# EAGLE library part MALE_HEADER_5X2 (library connectors)
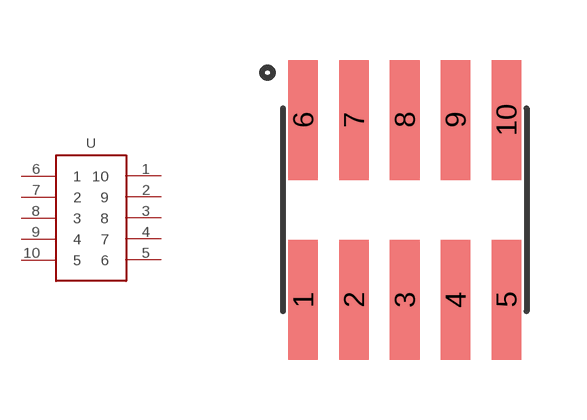
[diagram p10: symbol with the pads of 5X2_MALE_HEADER_1.27; footprint 5X2_MALE_HEADER_1.27]

Designator prefix -

## MALE_HEADER_5X2  [5X2_MALE_HEADER_1.27]
1  10
2  9
3  8
4  7
5  6
6  1
7  2
8  3
9  4
10  5

## Footprint 5X2_MALE_HEADER_1.27 (pad centres in mm)
smd 0.74 x 3: 1 -2.54,-2.25; 2 -1.27,-2.25; 3 0,-2.25; 4 1.27,-2.25; 5 2.54,-2.25; 6 -2.54,2.25; 7 -1.27,2.25; 8 0,2.25; 9 1.27,2.25; 10 2.54,2.25